# EAGLE library part CLV6A-FKB (library isystems)
CREE PLCC6 3in1 SMD LED Size (mm): 5.5 x 5.5 Dominant Wavelength: Red (619 - 624nm) Green (520 - 540nm) Blue (460 - 480nm) Luminous Intensity (mcd): Red (560 - 1120) Green (1120 - 2240) Blue (280 - 560) Viewing angle: 120 degree Lead-Free, RoHS Compliant
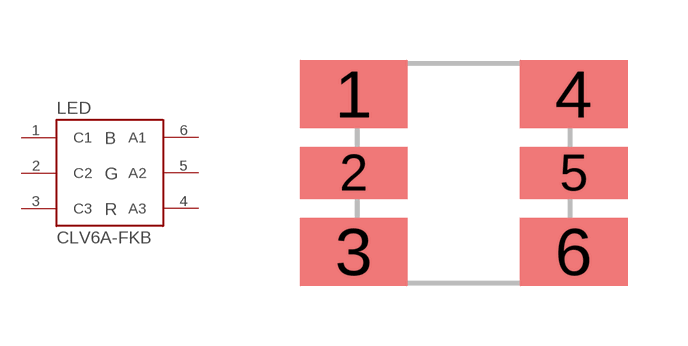
[diagram p1: symbol with the pads of PLCC6_5X5; footprint PLCC6_5X5]

Designator prefix LED

## CLV6A-FKB  [PLCC6_5X5]
1  C1
2  C2
3  C3
4  A3
5  A2
6  A1

## Footprint PLCC6_5X5 (pad centres in mm)
smd 2.7 x 1.7: 1 -2.75,1.975; 3 -2.75,-1.975; 4 2.75,1.975; 6 2.75,-1.975
smd 2.7 x 1.3: 2 -2.75,0; 5 2.75,0